# EAGLE library part FM24V05 (library PsoC)
512-Kbit (64 K × 8) Serial (I2C) F-RAM
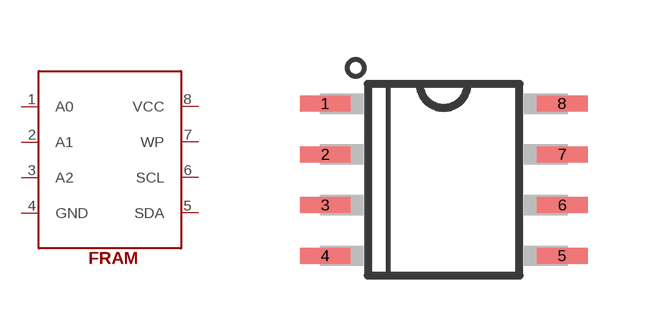
[diagram p3: symbol with the pads of SO8; footprint SO8]

Designator prefix MEM

## FM24V05  [SO8]
1  A0
2  A1
3  A2
4  GND
5  SDA
6  SCL
7  WP
8  VCC

## Footprint SO8 (pad centres in mm)
SO8 Auto generated by make-symbol-device-package-bsdl.ulp Rev. 43
smd 1.27 x 0.4: 1 -2.965,1.905; 2 -2.965,0.635; 3 -2.965,-0.635; 4 -2.965,-1.905; 5 2.965,-1.905; 6 2.965,-0.635; 7 2.965,0.635; 8 2.965,1.905